# EAGLE library part STM32F103CB (library AnyKey)
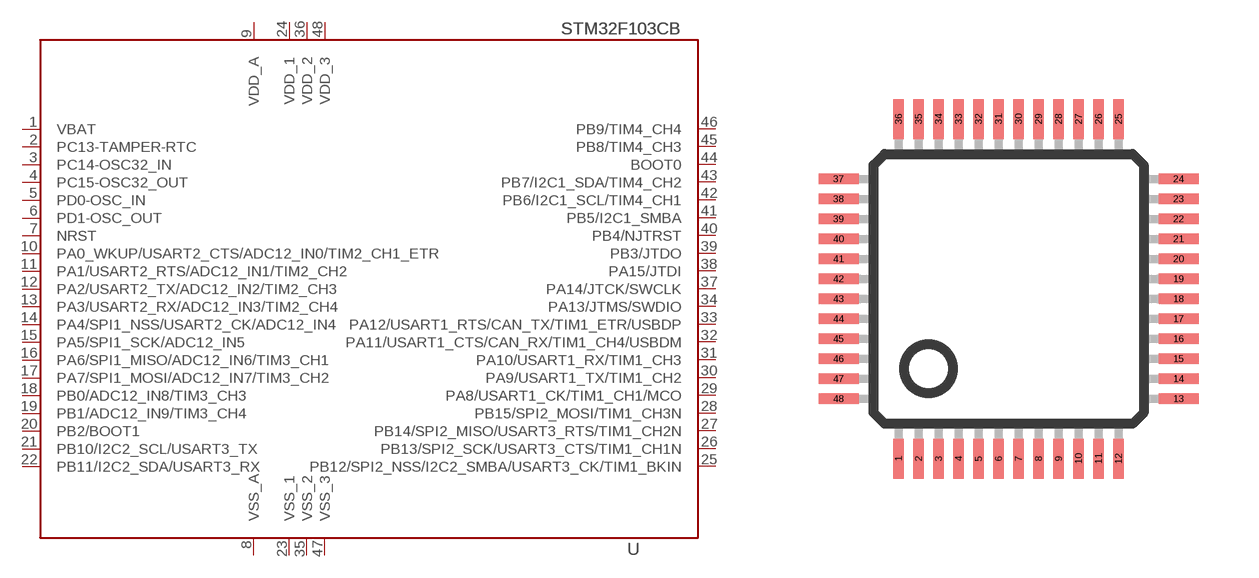
[diagram p2: symbol with the pads of LQFP48; footprint LQFP48]

Designator prefix -

## STM32F103CB  [LQFP48]
1  VBAT  pwr
2  PC13-TAMPER-RTC  in
3  PC14-OSC32_IN  in
4  PC15-OSC32_OUT  in
5  PD0-OSC_IN  in
6  PD1-OSC_OUT  in
7  NRST  in
8  VSS_A  pwr
9  VDD_A  pwr
10  PA0_WKUP/USART2_CTS/ADC12_IN0/TIM2_CH1_ETR
11  PA1/USART2_RTS/ADC12_IN1/TIM2_CH2
12  PA2/USART2_TX/ADC12_IN2/TIM2_CH3
13  PA3/USART2_RX/ADC12_IN3/TIM2_CH4
14  PA4/SPI1_NSS/USART2_CK/ADC12_IN4
15  PA5/SPI1_SCK/ADC12_IN5
16  PA6/SPI1_MISO/ADC12_IN6/TIM3_CH1
17  PA7/SPI1_MOSI/ADC12_IN7/TIM3_CH2
18  PB0/ADC12_IN8/TIM3_CH3
19  PB1/ADC12_IN9/TIM3_CH4
20  PB2/BOOT1
21  PB10/I2C2_SCL/USART3_TX  in
22  PB11/I2C2_SDA/USART3_RX  in
23  VSS_1  pwr
24  VDD_1  pwr
25  PB12/SPI2_NSS/I2C2_SMBA/USART3_CK/TIM1_BKIN  in
26  PB13/SPI2_SCK/USART3_CTS/TIM1_CH1N  in
27  PB14/SPI2_MISO/USART3_RTS/TIM1_CH2N  in
28  PB15/SPI2_MOSI/TIM1_CH3N  in
29  PA8/USART1_CK/TIM1_CH1/MCO
30  PA9/USART1_TX/TIM1_CH2  in
31  PA10/USART1_RX/TIM1_CH3
32  PA11/USART1_CTS/CAN_RX/TIM1_CH4/USBDM
33  PA12/USART1_RTS/CAN_TX/TIM1_ETR/USBDP
34  PA13/JTMS/SWDIO
35  VSS_2  pwr
36  VDD_2  pwr
37  PA14/JTCK/SWCLK
38  PA15/JTDI
39  PB3/JTDO
40  PB4/NJTRST
41  PB5/I2C1_SMBA  in
42  PB6/I2C1_SCL/TIM4_CH1  in
43  PB7/I2C1_SDA/TIM4_CH2
44  BOOT0  in
45  PB8/TIM4_CH3
46  PB9/TIM4_CH4  in
47  VSS_3  pwr
48  VDD_3  pwr

## Footprint LQFP48 (pad centres in mm)
48-pin plastic LQFP (FPT-48P-M26) www.fma.fujitsu.com/pdf/e713717.pdf
smd 0.254 x 1: 1 -2.75,-4.25; 2 -2.25,-4.25; 3 -1.75,-4.25; 4 -1.25,-4.25; 5 -0.75,-4.25; 6 -0.25,-4.25; 7 0.25,-4.25; 8 0.75,-4.25; 9 1.25,-4.25; 10 1.75,-4.25; 11 2.25,-4.25; 12 2.75,-4.25; 25 2.75,4.25; 26 2.25,4.25; 27 1.75,4.25; 28 1.25,4.25; 29 0.75,4.25; 30 0.25,4.25; 31 -0.25,4.25; 32 -0.75,4.25; 33 -1.25,4.25; 34 -1.75,4.25; 35 -2.25,4.25; 36 -2.75,4.25
smd 1 x 0.254: 13 4.25,-2.75; 14 4.25,-2.25; 15 4.25,-1.75; 16 4.25,-1.25; 17 4.25,-0.75; 18 4.25,-0.25; 19 4.25,0.25; 20 4.25,0.75; 21 4.25,1.25; 22 4.25,1.75; 23 4.25,2.25; 24 4.25,2.75; 37 -4.25,2.75; 38 -4.25,2.25; 39 -4.25,1.75; 40 -4.25,1.25; 41 -4.25,0.75; 42 -4.25,0.25; 43 -4.25,-0.25; 44 -4.25,-0.75; 45 -4.25,-1.25; 46 -4.25,-1.75; 47 -4.25,-2.25; 48 -4.25,-2.75